# EAGLE library part PIC24F32KA301 (library mylib)
PIC32F32KA30* available at https://www.elfa.se/elfa3~se_sv/elfa/init.do?item=73-349-31&toc=20970
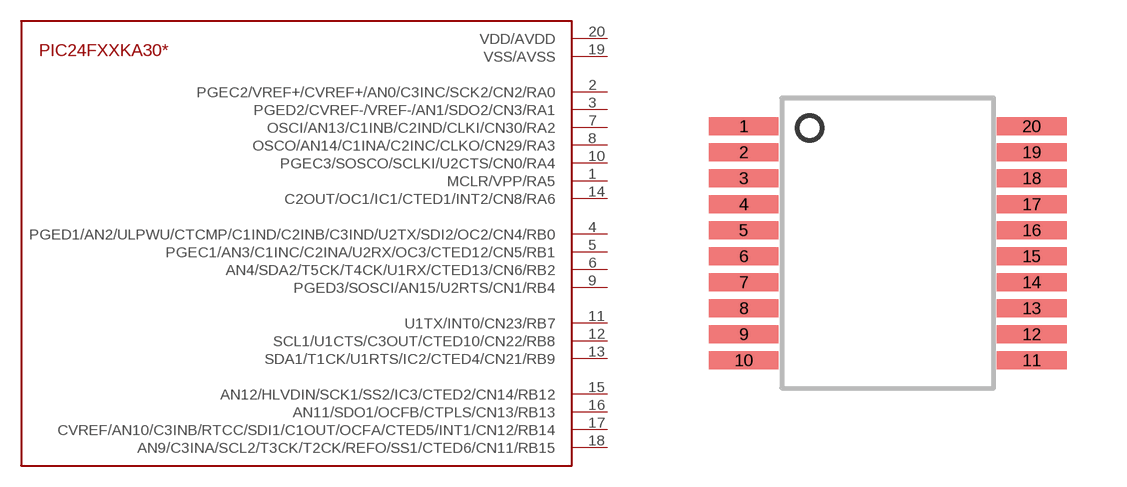
[diagram p1: symbol with the pads of SSOP-20; footprint SSOP-20]

Designator prefix -

## PIC24F32KA301  [SSOP-20]
1  MCLR/VPP/RA5
2  PGEC2/VREF+/CVREF+/AN0/C3INC/SCK2/CN2/RA0
3  PGED2/CVREF-/VREF-/AN1/SDO2/CN3/RA1
4  PGED1/AN2/ULPWU/CTCMP/C1IND/C2INB/C3IND/U2TX/SDI2/OC2/CN4/RB0
5  PGEC1/AN3/C1INC/C2INA/U2RX/OC3/CTED12/CN5/RB1
6  AN4/SDA2/T5CK/T4CK/U1RX/CTED13/CN6/RB2
7  OSCI/AN13/C1INB/C2IND/CLKI/CN30/RA2
8  OSCO/AN14/C1INA/C2INC/CLKO/CN29/RA3
9  PGED3/SOSCI/AN15/U2RTS/CN1/RB4
10  PGEC3/SOSCO/SCLKI/U2CTS/CN0/RA4
11  U1TX/INT0/CN23/RB7
12  SCL1/U1CTS/C3OUT/CTED10/CN22/RB8
13  SDA1/T1CK/U1RTS/IC2/CTED4/CN21/RB9
14  C2OUT/OC1/IC1/CTED1/INT2/CN8/RA6
15  AN12/HLVDIN/SCK1/SS2/IC3/CTED2/CN14/RB12
16  AN11/SDO1/OCFB/CTPLS/CN13/RB13
17  CVREF/AN10/C3INB/RTCC/SDI1/C1OUT/OCFA/CTED5/INT1/CN12/RB14
18  AN9/C3INA/SCL2/T3CK/T2CK/REFO/SS1/CTED6/CN11/RB15
19  VSS/AVSS
20  VDD/AVDD

## Footprint SSOP-20 (pad centres in mm)
SSOP-20 package for pic24 microcontrollers
smd 1.75 x 0.45: 1 -3.6,3.25; 2 -3.6,2.6; 3 -3.6,1.95; 4 -3.6,1.3; 5 -3.6,0.65; 6 -3.6,0; 7 -3.6,-0.65; 8 -3.6,-1.3; 9 -3.6,-1.95; 10 -3.6,-2.6; 11 3.6,-2.6; 12 3.6,-1.95; 13 3.6,-1.3; 14 3.6,-0.65; 15 3.6,0; 16 3.6,0.65; 17 3.6,1.3; 18 3.6,1.95; 19 3.6,2.6; 20 3.6,3.25